# EAGLE library part TC4420EPA (library 2021-09-27_07-36-46_Library)
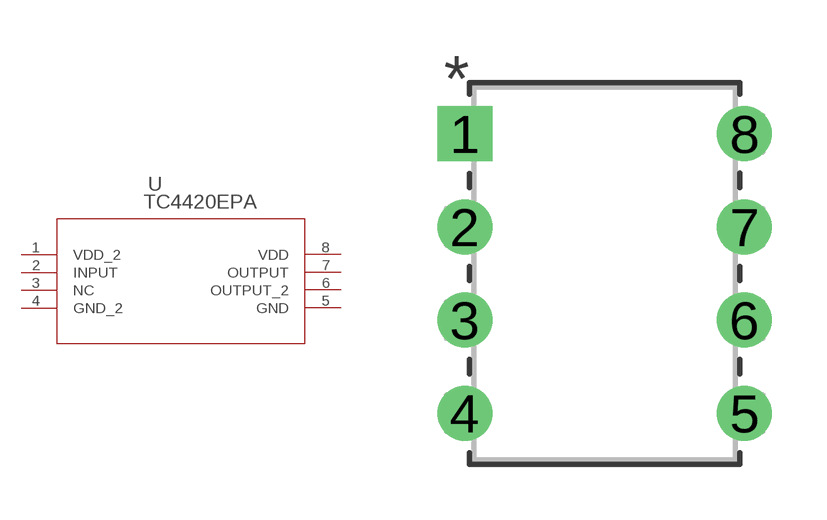
[diagram p0: symbol with the pads of PDIP8_300MC_MCH; footprint PDIP8_300MC_MCH]

Designator prefix U

## TC4420EPAPDIP8_300MC_MCH (Copyright: Copyright (C) 2021 Ultra Librarian. All rights reserved.; Digi-Key_Part_Number_1: TC4420EPA-ND; Manufacturer_Part_Number: TC4420EPA; Mfr_Name: Microchip)  [PDIP8_300MC_MCH]
1  VDD_2  pas
2  INPUT  pas
3  NC  pas
4  GND_2  pas
5  GND  pas
6  OUTPUT_2  pas
7  OUTPUT  pas
8  VDD  pas

## Footprint PDIP8_300MC_MCH (pad centres in mm)
drill 0.991 pad 1.499 square: 1 0,0
drill 0.991 pad 1.499 round: 2 0,-2.54; 3 0,-5.08; 4 0,-7.62; 5 7.62,-7.62; 6 7.62,-5.08; 7 7.62,-2.54; 8 7.62,0